# EAGLE library part ADF7030-1(LFCSP40) (library AD_Radio_Transceivers)
ADF7030-1 is a fully integrated, radio transceiver achieving high performance at very low power Technical Specifications: Radio frequency (RF) ranges: 169.4 MHz to 169.6 MHz 426 MHz to 470 MHz 863 MHz to 960 MHz VCC: 2.2-3.6V Operating Temperature: -40°C to 85°C Mouser: 584-ADF7030-1BCPZN DATASHEET <https://www.analog.com/media/en/technical-documentation/data-sheets/ADF7030-1.pdf>
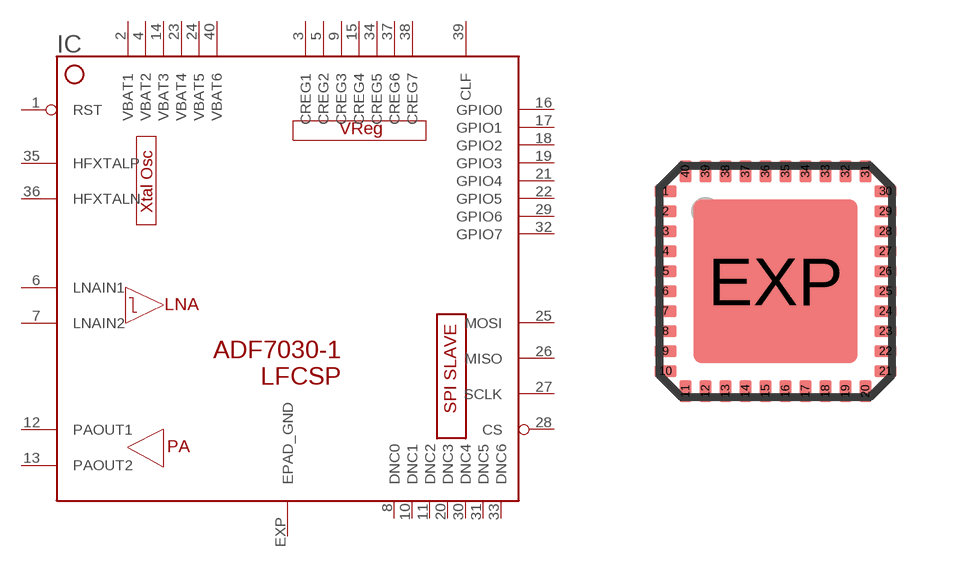
[diagram p0: symbol with the pads of LFCSP40; footprint LFCSP40]

Designator prefix IC

## ADF7030-1(LFCSP40)  [LFCSP40]
1  RST  in
2  VBAT1  pwr
3  CREG1  out
4  VBAT2  pwr
5  CREG2  out
6  LNAIN1  in
7  LNAIN2  in
8  DNC0  nc
9  CREG3  out
10  DNC1  nc
11  DNC2  nc
12  PAOUT1  out
13  PAOUT2  out
14  VBAT3  pwr
15  CREG4  out
16  GPIO0
17  GPIO1
18  GPIO2
19  GPIO3
20  DNC3  nc
21  GPIO4
22  GPIO5
23  VBAT4  pwr
24  VBAT5  pwr
25  MOSI
26  MISO
27  SCLK
28  CS  in
29  GPIO6
30  DNC4  nc
31  DNC5  nc
32  GPIO7
33  DNC6  nc
34  CREG5  out
35  HFXTALP
36  HFXTALN
37  CREG6  out
38  CREG7  out
39  CLF
40  VBAT6  pwr
EXP  EPAD_GND  sup

## Footprint LFCSP40 (pad centres in mm)
40-Lead Frame Chip Scale Package [LFCSP_VQ] 6 mm x 6 mm Body, Very Thin Quad (CP-40) COMPLIANT TO JEDEC STANDARDS MO-220-VJJD-2 Source: http://www.analog.com/UploadedFiles/Data_Sheets/288945048AD7C7019_20_1_2_4_5_6_7_0.pdf
smd 0.55 x 0.3: 1 -2.75,2.25; 2 -2.75,1.75; 3 -2.75,1.25; 4 -2.75,0.75; 5 -2.75,0.25; 6 -2.75,-0.25; 7 -2.75,-0.75; 8 -2.75,-1.25; 9 -2.75,-1.75; 10 -2.75,-2.25; 21 2.75,-2.25; 22 2.75,-1.75; 23 2.75,-1.25; 24 2.75,-0.75; 25 2.75,-0.25; 26 2.75,0.25; 27 2.75,0.75; 28 2.75,1.25; 29 2.75,1.75; 30 2.75,2.25
smd 0.3 x 0.55: 11 -2.25,-2.75; 12 -1.75,-2.75; 13 -1.25,-2.75; 14 -0.75,-2.75; 15 -0.25,-2.75; 16 0.25,-2.75; 17 0.75,-2.75; 18 1.25,-2.75; 19 1.75,-2.75; 20 2.25,-2.75; 31 2.25,2.75; 32 1.75,2.75; 33 1.25,2.75; 34 0.75,2.75; 35 0.25,2.75; 36 -0.25,2.75; 37 -0.75,2.75; 38 -1.25,2.75; 39 -1.75,2.75; 40 -2.25,2.75
smd 4.1 x 4.1: EXP 0,0